# EAGLE library part CSD17304Q3 (library micromousev2Parts)
30V N-Channel NexFET™ Power MOSFET Source: Datasheet <http://www.ti.com/lit/gpn/csd17304q3>
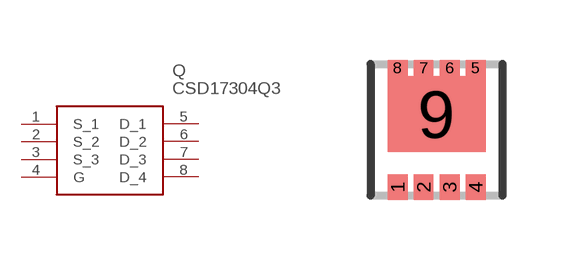
[diagram p11: symbol with the pads of DQG_VSON-CLIP; footprint DQG_VSON-CLIP]

Designator prefix Q

## CSD17304Q3 (ARROW_PART_NUMBER: CSD17304Q3; ARROW_PRICE/STOCK: https://www.arrow.com/en/products/csd17304q3/texas-instruments; DESCRIPTION: 30V N-Channel NexFET&#153; Power MOSFET; HEIGHT: mm; MANUFACTURER_NAME: Texas Instruments; MANUFACTURER_PART_NUMBER: CSD17304Q3)  [DQG_VSON-CLIP]
1  S_1  in
2  S_2  in
3  S_3  in
4  G  in
5  D_1  out
6  D_2  out
7  D_3  out
8  D_4  out

## Footprint DQG_VSON-CLIP (pad centres in mm)
DQG_VSON-CLIP
smd 0.5 x 0.63: 1 -0.975,-1.435; 2 -0.325,-1.435; 3 0.325,-1.435; 4 0.975,-1.435
smd 0.5 x 0.41: 5 0.975,1.545; 6 0.325,1.545; 7 -0.325,1.545; 8 -0.975,1.545
smd 2.45 x 1.9: 9 0,0.39